# EAGLE library part USBR-A-D-F-O-TH (library distributed-vision)
USB-A (USB TYPE-A) USB 2.0 Receptacle Connector 8 Position Through Hole, Right Angle
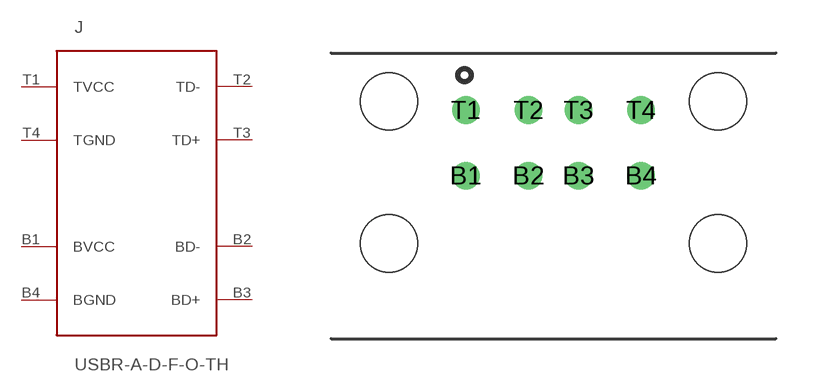
[diagram p5: symbol with the pads of USBR-A-D-F-O-TH; footprint USBR-A-D-F-O-TH]

Designator prefix J

## USBR-A-D-F-O-TH (DKPN: SAM10376-ND)  [USBR-A-D-F-O-TH]
B1  BVCC
B2  BD-
B3  BD+
B4  BGND
T1  TVCC
T2  TD-
T3  TD+
T4  TGND

## Footprint USBR-A-D-F-O-TH (pad centres in mm)
drill 0.6 pad 0.9: B1 -3.5,2.71; B2 -1,2.71; B3 1,2.71; B4 3.5,2.71; T1 -3.5,5.33; T2 -1,5.33; T3 1,5.33; T4 3.5,5.33
hole 2.3 at 6.57,0
hole 2.3 at -6.57,0
hole 2.3 at -6.57,5.68
hole 2.3 at 6.57,5.68